# Altium schematic symbol library 830064296.SchLib: 1 symbol
Pins are listed as number, name and electrical type; pins without a type are passive.

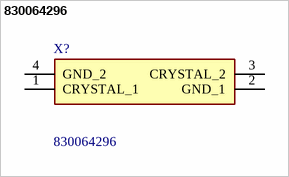
[diagram p0: symbol 830064296]

## 830064296
designator X?
Crystals WE-XTAL 16.0MHz 20ppm 3.2 x 2.5mm; Manufacturer_Name: Wurth Elektronik; Geometry.Height: 0.8mm; Mouser Part Number: 710-830064296; Mouser Price/Stock: https://www.mouser.co.uk/ProductDetail/Wurth-Elektronik/830064296?qs=2WXlatMagcHie2R9Uu0%252BSg%3D%3D; Manufacturer_Part_Number: 830064296; Datasheet Link: https://www.we-online.com/components/products/datasheet/830064296.pdf
footprint 830064296
pins: 1 CRYSTAL_1, 2 GND_1, 3 CRYSTAL_2, 4 GND_2